# Altium footprint library STMicroelectronics_LSM9DS0TR_0.PcbLib: 22 footprints (part 2 of 2)
Each footprint in its own frame and in the unit in brackets; x right, y up, seen from the top. Pads: shape width x height; smd on the part's side, far side on the other; paste and mask are expansions set on the pad; w line width, h text height; cw(c..) or ccw(c..) is an arc to the next point about the centre after c.
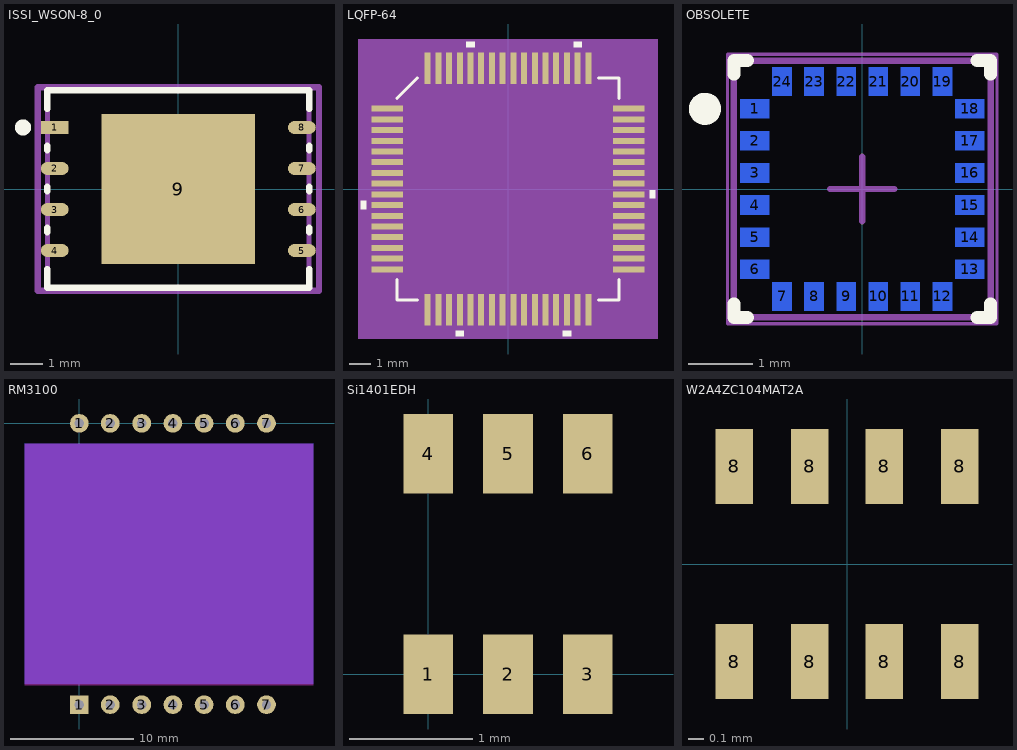
[diagram p1: the footprints below, top view; thin cyan lines are the x and y axes]

## ISSI_WSON-8_0 [mm]
pads (9):
  rect 0.861x0.392 smd paste+0 mask+0: 1(-3.826,1.905)
  oval 0.861x0.392 smd paste+0 mask+0: 2(-3.826,0.635) 3(-3.826,-0.635) 4(-3.826,-1.905) 5(3.826,-1.905) 6(3.826,-0.635) 7(3.826,0.635) 8(3.826,1.905)
  rect 4.75x4.65 smd paste-1000 mask+0: 9(0,0)
Top Overlay:
  circle w0.25: c-4.806,1.905 r0.125
  lines w0.2: -4.05,-2.476 -4.05,-3.05 4.05,-3.05 4.05,-2.476 ; -4.05,-1.334 -4.05,-1.206 ; -4.05,-0.064 -4.05,0.064 ; -4.05,1.206 -4.05,1.334 ; -4.05,2.476 -4.05,3.05 4.05,3.05 4.05,2.476 ; 4.05,-1.334 4.05,-1.206 ; 4.05,-0.064 4.05,0.064 ; 4.05,1.206 4.05,1.334
Top Paste:
  rectangle: 0.288,-1.749 1.799,-0.288
  rectangle: -1.799,-1.749 -0.288,-0.288
  rectangle: 0.288,0.288 1.799,1.749
  rectangle: -1.799,0.288 -0.288,1.749
Mechanical 10:
  lines w0.2: -4.356,-3.15 -4.356,3.15 4.356,3.15 4.356,-3.15 -4.356,-3.15
Mechanical 12:
  lines w0.15: -4.05,-3.05 -4.05,3.05 4.05,3.05 4.05,-3.05 -4.05,-3.05
Mechanical 15:
  lines w0.1: -0.5,0 0.5,0 ; 0,-0.5 0,0.5
  lines w0.2: -4.356,-3.15 -4.356,3.15 4.356,3.15 4.356,-3.15 -4.356,-3.15
3D body "IC_ISSI_IS25LP128-JLLE_eec.STEP": height 0.25, standoff 0, extent -4.356,-3.15 4.356,3.15

## LQFP-64 [mil]
pads (64):
  rect 58x11 smd: 1(-221.5,147.64) 2(-221.5,127.95) 3(-221.5,108.27) 4(-221.5,88.58) 5(-221.5,68.9) 6(-221.5,49.21) 7(-221.5,29.53) 8(-221.5,9.84) 9(-221.5,-9.84) 10(-221.5,-29.53) 11(-221.5,-49.21) 12(-221.5,-68.9) 13(-221.5,-88.58) 14(-221.5,-108.27) 15(-221.5,-127.95) 16(-221.5,-147.64) 33(221.5,-147.64) 34(221.5,-127.95) 35(221.5,-108.27) 36(221.5,-88.58) 37(221.5,-68.9) 38(221.5,-49.21) 39(221.5,-29.53) 40(221.5,-9.84) 41(221.5,9.84) 42(221.5,29.53) 43(221.5,49.21) 44(221.5,68.9) 45(221.5,88.58) 46(221.5,108.27) 47(221.5,127.95) 48(221.5,147.64)
  rect 11x58 smd: 17(-147.64,-221.5) 18(-127.95,-221.5) 19(-108.27,-221.5) 20(-88.58,-221.5) 21(-68.9,-221.5) 22(-49.21,-221.5) 23(-29.53,-221.5) 24(-9.84,-221.5) 25(9.84,-221.5) 26(29.53,-221.5) 27(49.21,-221.5) 28(68.9,-221.5) 29(88.58,-221.5) 30(108.27,-221.5) 31(127.95,-221.5) 32(147.64,-221.5) 49(147.64,221.5) 50(127.95,221.5) 51(108.27,221.5) 52(88.58,221.5) 53(68.9,221.5) 54(49.21,221.5) 55(29.53,221.5) 56(9.84,221.5) 57(-9.84,221.5) 58(-29.53,221.5) 59(-49.21,221.5) 60(-68.9,221.5) 61(-88.58,221.5) 62(-108.27,221.5) 63(-127.95,221.5) 64(-147.64,221.5)
Top Overlay:
  region: -61.4,260.5 -76.4,260.5 -76.4,270.5 -61.4,270.5
  region: 135.45,260.5 120.45,260.5 120.45,270.5 135.45,270.5
  region: 260.5,-2.34 270.5,-2.34 270.5,-17.34 260.5,-17.34
  region: 115.77,-260.5 100.77,-260.5 100.77,-270.5 115.77,-270.5
  region: -81.08,-260.5 -96.08,-260.5 -96.08,-270.5 -81.08,-270.5
  region: -260.5,-22.03 -270.5,-22.03 -270.5,-37.03 -260.5,-37.03
  lines w6: -204,-166.24 -204,-204 -166.24,-204 ; -204,166.24 -166.24,204 ; 166.24,-204 204,-204 204,-166.24 ; 166.24,204 204,204 204,166.24
  text "." at -205,205 h50
Mechanical 5:
  region: 275.5,-275.5 -275.5,-275.5 -275.5,275.5 275.5,275.5
Mechanical 13:
  drawing of 261 lines, arcs and shapes, not listed
  text "*" at -196.5,132.48 h50
Mechanical 15:
  region: -167.64,-209 -209,-209 -209,-167.64 -262,-167.64 -262,167.64 -209,167.64 -209,209 -167.64,209 -167.64,262 167.64,262 167.64,209 209,209 209,167.64 262,167.64 262,-167.64 209,-167.64 209,-209 167.64,-209 167.64,-262 -167.64,-262
  lines w6: -262,-167.64 -262,167.64 -209,167.64 -209,209 -167.64,209 -167.64,262 167.64,262 167.64,209 209,209 209,167.64 262,167.64 262,-167.64 209,-167.64 209,-209 167.64,-209 167.64,-262 -167.64,-262 -167.64,-209 -209,-209 -209,-167.64 -262,-167.64
3D body: height 10, standoff 0, extent 0,0 10,10

## OBSOLETE [mm] "LGA, 24-Leads, Body 4x4mm, Pitch 0.5mm"
height 1.07
pads (24):
  rect 0.45x0.3 smd far side mask+0.05: 1(-1.675,1.25) 2(-1.675,0.75) 3(-1.675,0.25) 4(-1.675,-0.25) 5(-1.675,-0.75) 6(-1.675,-1.25) 13(1.675,-1.25) 14(1.675,-0.75) 15(1.675,-0.25) 16(1.675,0.25) 17(1.675,0.75) 18(1.675,1.25)
  rect 0.3x0.45 smd far side mask+0.05: 7(-1.25,-1.675) 8(-0.75,-1.675) 9(-0.25,-1.675) 10(0.25,-1.675) 11(0.75,-1.675) 12(1.25,-1.675) 19(1.25,1.675) 20(0.75,1.675) 21(0.25,1.675) 22(-0.25,1.675) 23(-0.75,1.675) 24(-1.25,1.675)
Top Overlay:
  circle w0.25: c-2.45,1.25 r0.125
  lines w0.2: -2,-1.787 -2,-2 -1.787,-2 ; -2,1.787 -2,2 -1.787,2 ; 1.787,-2 2,-2 2,-1.787 ; 1.787,2 2,2 2,1.787
Mechanical 13:
  lines w0.1: -2,-2 2,-2 2,2 -2,2 -2,-2
Mechanical 15:
  lines w0.05: -2.1,-2.1 2.1,-2.1 2.1,2.1 -2.1,2.1 -2.1,-2.1
  lines w0.1: -0.5,0 0.5,0 ; 0,-0.5 0,0.5
3D body: height 1.07, standoff 0, extent -2,-2 2,2

## RM3100 [mil]
pads (14):
  rect 60x60 hole 30: 1(0,-901.57)
  round 60 hole 30: 1(0,0) 2(99.21,-901.57) 2(99.21,0) 3(200,-901.57) 3(200,0) 4(300,-901.57) 4(300,0) 5(400,-901.57) 5(400,0) 6(500,-901.57) 6(500,0) 7(600,-901.57) 7(600,0)
Top Layer keep-out:
  rectangle: -175,-840 750,-170
Bottom Layer keep-out:
  rectangle: -175,-835 750,-65

## Si1401EDH [mm]
pads (6):
  rect 0.406x0.648 smd mask+0.05: 1(0,0) 2(0.648,0) 3(1.296,0) 4(0,1.79) 5(0.648,1.79) 6(1.296,1.79)
Top Overlay:
  text "." at -0.508,-0.635 h0.5

## W2A4ZC104MAT2A [mm]
pads (8):
  rect 0.25x0.5 smd: 8(-0.75,-0.65) 8(-0.75,0.65) 8(-0.25,-0.65) 8(-0.25,0.65) 8(0.25,-0.65) 8(0.25,0.65) 8(0.75,-0.65) 8(0.75,0.65)